# Altium footprint library MODEM_R2_1.PcbLib: 20 footprints (part 1 of 2)
Each footprint in its own frame and in the unit in brackets; x right, y up, seen from the top. Pads: shape width x height; smd on the part's side, far side on the other; paste and mask are expansions set on the pad; w line width, h text height; cw(c..) or ccw(c..) is an arc to the next point about the centre after c.
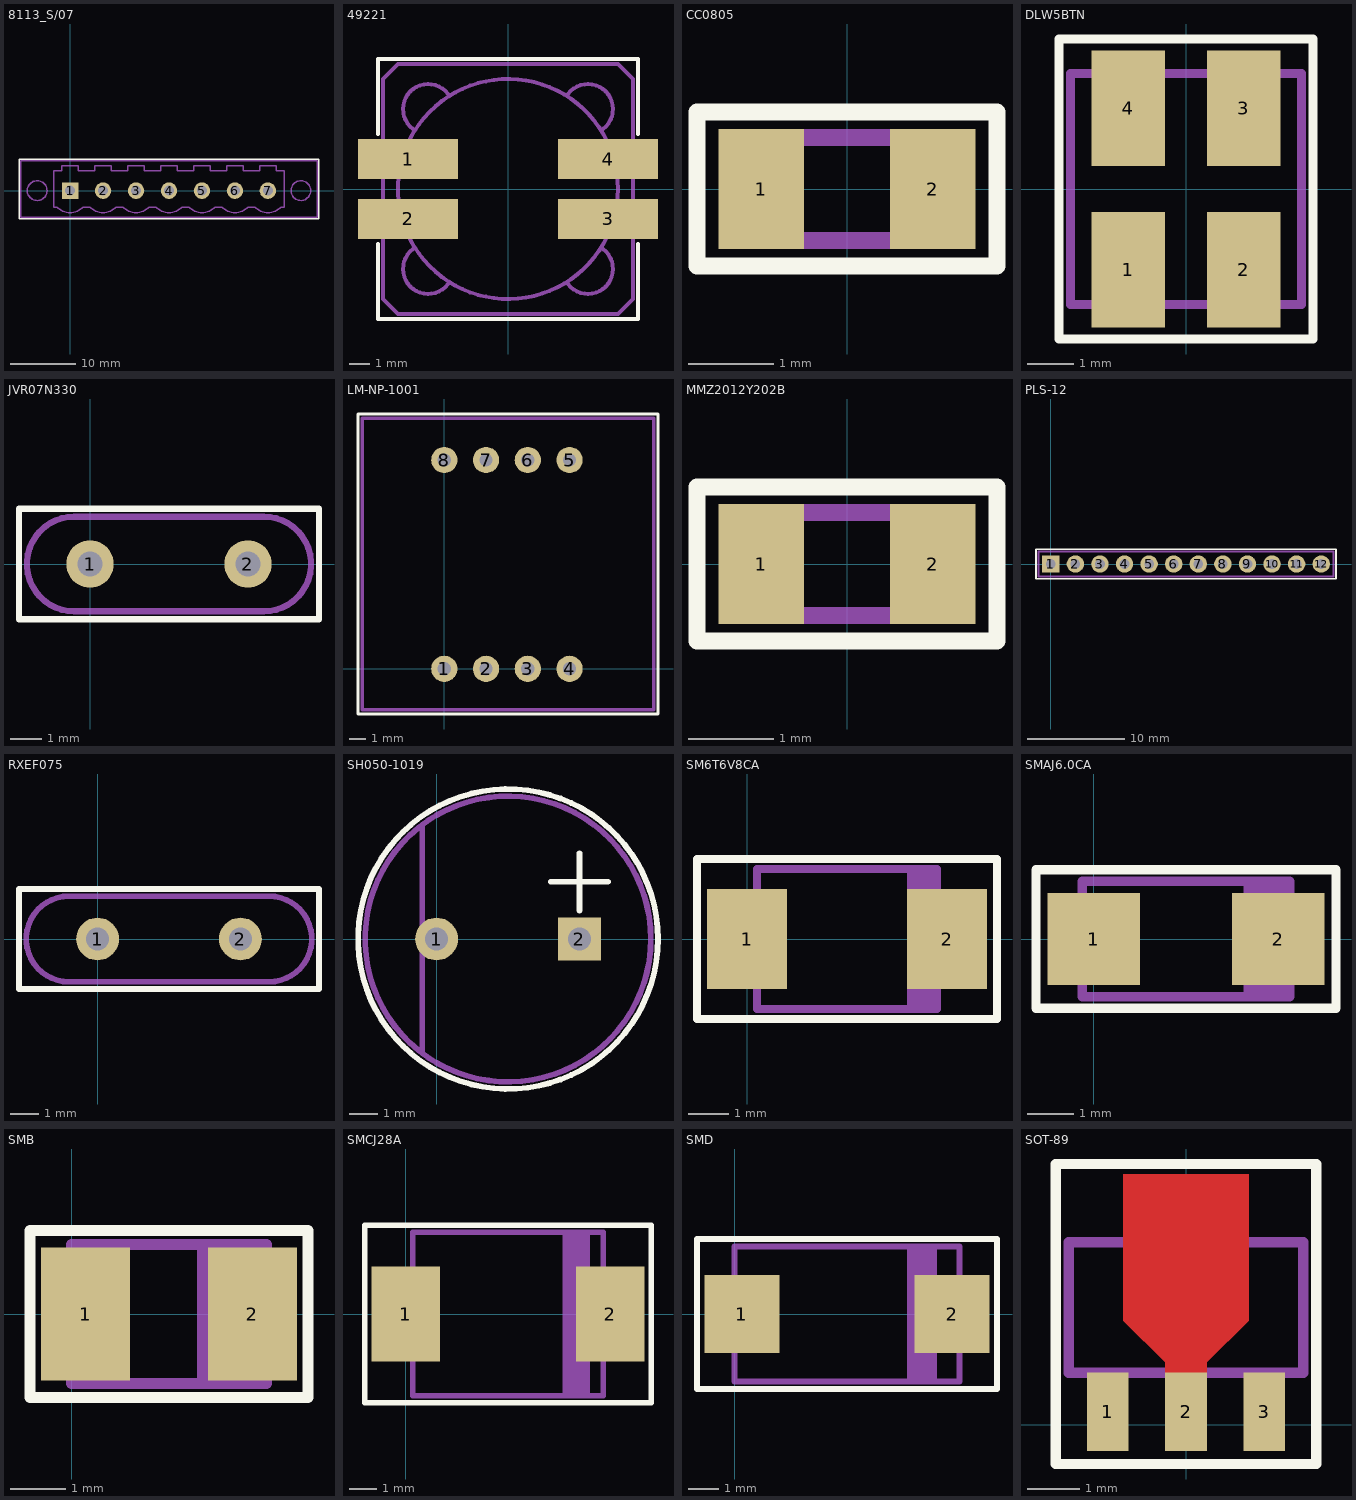
[diagram p0: the footprints below, top view; thin cyan lines are the x and y axes]

## 8113_S/07 [mm]
height 12.5
pads (7):
  rect 2.5x2.5 hole 1.5: 1(0,0)
  round 2.5 hole 1.5: 2(5,0) 3(10,0) 4(15,0) 5(20,0) 6(25,0) 7(30,0)
Top Overlay:
  lines w0.2: -7.75,-4.25 -7.75,4.75 37.75,4.75 37.75,-4.25 -7.75,-4.25
Mechanical 1:
  circle w0.2: c-5,0 r1.5
  circle w0.2: c35,0 r1.5
  lines w0.2: -7.5,-4 37.5,-4 37.5,4.5 -7.5,4.5 -7.5,-4 ; -2.5,-2.5 -2.5,3 -1.25,3 -1.25,3.75 1.25,3.75 1.25,3 3.75,3 3.75,3.75 6.25,3.75 6.25,3 8.75,3 8.75,3.75 11.25,3.75 11.25,3 13.75,3 13.75,3.75 16.25,3.75 16.25,3 18.75,3 18.75,3.75 21.25,3.75 21.25,3 23.75,3 23.75,3.75 26.25,3.75 26.25,3 28.75,3 28.75,3.75 31.25,3.75 31.25,3 32.5,3 32.5,-2.5 32,-2.5 cw(c30,-0.5) 28,-2.5 27,-2.5 cw(c25,-0.5) 23,-2.5 22,-2.5 cw(c20,-0.5) 18,-2.5 17,-2.5 cw(c15,-0.5) 13,-2.5 12,-2.5 cw(c10,-0.5) 8,-2.5 7,-2.5 cw(c5,-0.5) 3,-2.5 2,-2.5 cw(c0,-0.5) -2,-2.5 -2.5,-2.5

## 49221 [mm]
height 8.5
pads (4):
  rect 5x2 smd: 1(-5,1.5) 2(-5,-1.5) 3(5,-1.5) 4(5,1.5)
Top Overlay:
  lines w0.2: -6.5,-2.75 -6.5,-6.5 6.5,-6.5 6.5,-2.75 ; -6.5,2.75 -6.5,6.5 6.5,6.5 6.5,2.75
Mechanical 1:
  circle w0.2: c0,0 r5.5
  lines w0.2: -4.75,-3 ccw(c-4,-4) -3,-4.75 ; -4.75,3 cw(c-4,4) -3,4.75 ; 3,-4.75 ccw(c4,-4) 4.75,-3 ; 3,4.75 cw(c4,4) 4.75,3 ; -6.25,-5.5 -6.25,5.5 -5.5,6.25 5.5,6.25 6.25,5.5 6.25,-5.5 5.5,-6.25 -5.5,-6.25 -6.25,-5.5

## CC0805 [mm]
height 0.8
pads (2):
  rect 1x1.4 smd: 1(-1,0) 2(1,0)
Top Overlay:
  lines w0.2: -1.75,-0.9 1.75,-0.9 1.75,0.9 -1.75,0.9 -1.75,-0.9
Mechanical 1:
  lines w0.2: -1,-0.6 -1,0.6 1,0.6 1,-0.6 0.6,-0.6 -0.9,-0.6 -1,-0.6

## DLW5BTN [mm]
height 2.5
pads (4):
  rect 1.6x2.5 smd mask+0.05: 1(-1.25,-1.75) 2(1.25,-1.75) 3(1.25,1.75) 4(-1.25,1.75)
Top Overlay:
  lines w0.2: -2.75,-3.25 -2.75,3.25 2.75,3.25 2.75,-3.25 -2.75,-3.25
Mechanical 1:
  lines w0.2: -2.5,-2.5 -2.5,2.5 2.5,2.5 2.5,-2.5 -2.5,-2.5

## JVR07N330 [mm]
height 15
pads (2):
  round 1.5 hole 0.8: 1(0,0) 2(5,0)
Top Overlay:
  lines w0.2: -2.25,-1.75 -2.25,1.75 7.25,1.75 7.25,-1.75 -2.25,-1.75
Mechanical 1:
  lines w0.2: -0.5,-1.5 cw(c-0.5,0) -0.5,1.5 5.5,1.5 cw(c5.5,0) 5.5,-1.5 -0.5,-1.5

## LM-NP-1001 [mm]
height 12.6
pads (8):
  round 1.6 hole 0.8: 1(0,0) 2(2.54,0) 3(5.08,0) 4(7.62,0) 5(7.62,12.7) 6(5.08,12.7) 7(2.54,12.7) 8(0,12.7)
Top Overlay:
  lines w0.2: -5.25,-2.75 -5.25,15.5 13,15.5 13,-2.75 -5.25,-2.75
Mechanical 1:
  lines w0.2: -5,-2.5 -5,15.25 12.75,15.25 12.75,-2.5 -5,-2.5

## MMZ2012Y202B [mm]
height 1
pads (2):
  rect 1x1.4 smd: 1(-1,0) 2(1,0)
Top Overlay:
  lines w0.2: -1.75,-0.9 1.75,-0.9 1.75,0.9 -1.75,0.9 -1.75,-0.9
Mechanical 1:
  lines w0.2: -1,-0.6 -1,0.6 1,0.6 1,-0.6 0.6,-0.6 -0.9,-0.6 -1,-0.6

## PLS-12 [mm]
height 10
pads (12):
  rect 1.8x1.8 hole 1: 1(0,0)
  round 1.8 hole 1: 2(2.54,0) 3(5.08,0) 4(7.62,0) 5(10.16,0) 6(12.7,0) 7(15.24,0) 8(17.78,0) 9(20.32,0) 10(22.86,0) 11(25.4,0) 12(27.94,0)
Top Overlay:
  lines w0.2: -1.524,-1.524 -1.524,1.524 29.464,1.524 29.464,-1.524 -1.524,-1.524
Mechanical 1:
  lines w0.2: -1.27,-1.27 29.21,-1.27 29.21,1.27 -1.27,1.27 -1.27,-1.27

## RXEF075 [mm]
height 15
pads (2):
  round 1.5 hole 0.8: 1(0,0) 2(5,0)
Top Overlay:
  lines w0.2: -2.75,-1.75 7.75,-1.75 7.75,1.75 -2.75,1.75 -2.75,-1.75
Mechanical 1:
  lines w0.2: -1,-1.5 cw(c-1,0) -1,1.5 6,1.5 cw(c6,0) 6,-1.5 -1,-1.5

## SH050-1019 [mm]
height 19
pads (2):
  round 1.5 hole 0.8: 1(0,0)
  rect 1.5x1.5 hole 0.8: 2(5,0)
Top Overlay:
  circle w0.2: c2.5,0 r5.25
  lines w0.2: 4,2 6,2 ; 5,1 5,3
Mechanical 1:
  circle w0.2: c2.5,0 r5
  lines w0.2: -0.5,-4 -0.5,4

## SM6T6V8CA [mm]
height 2
pads (2):
  rect 2x2.5 smd: 1(0,0) 2(5,0)
Top Overlay:
  lines w0.2: -1.25,-2 6.25,-2 6.25,2 -1.25,2 -1.25,-2
Mechanical 1:
  rectangle: 4,-1.75 4.75,1.75
  lines w0.2: 0.25,-1.75 4.75,-1.75 4.75,1.75 0.25,1.75 0.25,-1.75

## SMAJ6.0CA [mm]
height 2.5
pads (2):
  rect 2x2 smd: 1(0,0) 2(4,0)
Top Overlay:
  lines w0.2: -1.25,-1.5 -1.25,1.5 5.25,1.5 5.25,-1.5 -1.25,-1.5
Mechanical 1:
  rectangle: 3.25,-1.25 4.25,1.25
  lines w0.2: -0.25,-1.25 4.25,-1.25 4.25,1.25 -0.25,1.25 -0.25,-1.25

## SMB [mm]
height 2.5
pads (2):
  rect 1.6x2.4 smd: 1(0.25,0) 2(3.25,0)
Top Overlay:
  lines w0.2: -0.75,-1.5 -0.75,1.5 4.25,1.5 4.25,-1.5 -0.75,-1.5
Mechanical 1:
  rectangle: 2.25,-1.25 3,1.25
  lines w0.2: 0,-1.25 3.5,-1.25 3.5,1.25 0,1.25 0,-1.25

## SMCJ28A [mm]
height 2.5
pads (2):
  rect 2.5x3.5 smd: 1(0,0) 2(7.5,0)
Top Overlay:
  lines w0.2: -1.5,-3.25 9,-3.25 9,3.25 -1.5,3.25 -1.5,-3.25
Mechanical 1:
  rectangle: 5.75,-3 6.75,3
  lines w0.2: 0.25,-3 0.25,3 7.25,3 7.25,-3 0.25,-3

## SMD [mm]
height 2.5
pads (2):
  rect 2.5x2.6 smd: 1(0.25,0) 2(7.25,0)
Top Overlay:
  lines w0.2: -1.25,-2.5 -1.25,2.5 8.75,2.5 8.75,-2.5 -1.25,-2.5
Mechanical 1:
  rectangle: 5.75,-2.25 6.75,2.25
  lines w0.2: 0,-2.25 7.5,-2.25 7.5,2.25 0,2.25 0,-2.25

## SOT-89 [mm]
height 1.5
pads (3):
  rect 0.8x1.5 smd: 1(-1.5,0.25) 2(0,0.25) 3(1.5,0.25)
Top Layer:
  region: -0.4,1 -0.4,1.2 -1.2,2 -1.2,4.8 1.2,4.8 1.2,2 0.4,1.2 0.4,1
Top Overlay:
  lines w0.2: -2.5,-0.75 -2.5,5 2.5,5 2.5,-0.75 -2.5,-0.75
Top Solder:
  region: -0.5,1.1 -0.5,1.2 -1.3,2 -1.3,4.9 1.3,4.9 1.3,2 0.5,1.2 0.5,1.1
Mechanical 1:
  lines w0.2: -1.5,0 -1.5,1 ; 0,0 0,1 ; 1.5,0 1.5,1 ; -2.25,3.5 -2.25,1 2.25,1 2.25,2 2.25,3.5 ; -2.25,3.5 -1,3.5 -1,4.25 1,4.25 1,3.5 2.25,3.5 ; -2.25,3.5 2.25,3.5